# Altium integrated library SW-PB4.IntLib: 1 symbol
Pins are listed as number, name and electrical type; pins without a type are passive.

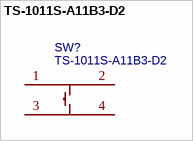
[diagram p0: symbol TS-1011S-A11B3-D2]

## TS-1011S-A11B3-D2
designator SW?
BOM_Manufacturer: Yuandi(台湾元迪); Contributor: LCSC; BOM_Supplier: LCSC; BOM_Supplier Part: C585213; BOM_Manufacturer Part: TS-1011S-A11B3-D2; BOM_JLCPCB Part Class: Extended Part; spicePre: S; spiceSymbolName: TS-1011S-A11B3-D2
footprint KEY-SMD_4P-L12.0-W12.0-P5.00-LS15.2
pins: 1, 2, 3, 4